# EAGLE library part PINHD-1X18 (library pinhead)
PIN HEADER
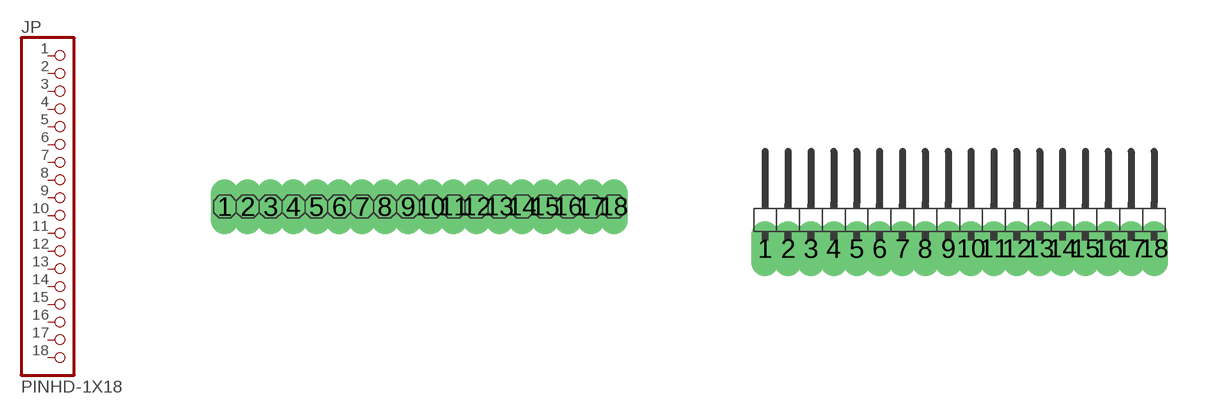
[diagram p12: symbol with the pads of 1X18; footprints 1X18, 1X18/90]

Designator prefix JP

## PINHD-1X18  [1X18]
1  1  pas
2  2  pas
3  3  pas
4  4  pas
5  5  pas
6  6  pas
7  7  pas
8  8  pas
9  9  pas
10  10  pas
11  11  pas
12  12  pas
13  13  pas
14  14  pas
15  15  pas
16  16  pas
17  17  pas
18  18  pas

## PINHD-1X18/90  [1X18/90]
Pads as for 1X18

## Footprint 1X18 (pad centres in mm)
PIN HEADER
drill 0.254 long: 1 -5.397,0; 2 -4.763,0; 3 -4.128,0; 4 -3.493,0; 5 -2.857,0; 6 -2.223,0; 7 -1.587,0; 8 -0.953,0; 9 -0.318,0; 10 0.318,0; 11 0.953,0; 12 1.587,0; 13 2.223,0; 14 2.857,0; 15 3.493,0; 16 4.128,0; 17 4.763,0; 18 5.397,0

## Footprint 1X18/90 (pad centres in mm)
PIN HEADER
drill 0.254 long: 1 -5.397,-0.953; 2 -4.763,-0.953; 3 -4.128,-0.953; 4 -3.493,-0.953; 5 -2.857,-0.953; 6 -2.223,-0.953; 7 -1.587,-0.953; 8 -0.953,-0.953; 9 -0.318,-0.953; 10 0.318,-0.953; 11 0.953,-0.953; 12 1.587,-0.953; 13 2.223,-0.953; 14 2.857,-0.953; 15 3.493,-0.953; 16 4.128,-0.953; 17 4.763,-0.953; 18 5.397,-0.953